# EAGLE library part SX1509 (library keir_library)
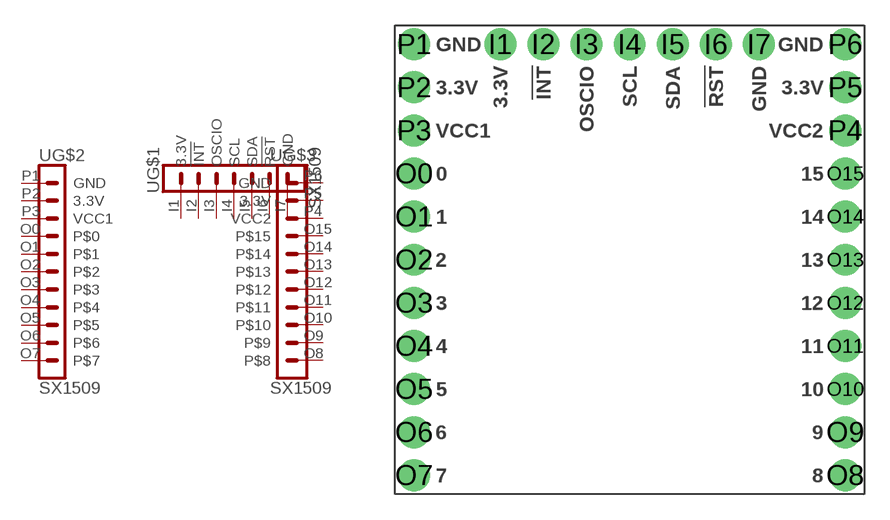
[diagram p8: symbol with the pads of SX1509; footprint SX1509]

Designator prefix -; gates G$2=SX1509_11_A G$3=SX1509_11_B G$1=SX1509_7

## SX1509  [SX1509]
I1  G$1:3.3V  pwr
I2  G$1:!INT  in
I3  G$1:OSCIO
I4  G$1:SCL
I5  G$1:SDA
I6  G$1:!RST  out
I7  G$1:GND  sup
O0  G$2:P$0
O1  G$2:P$1
O2  G$2:P$2
O3  G$2:P$3
O4  G$2:P$4
O5  G$2:P$5
O6  G$2:P$6
O7  G$2:P$7
O8  G$3:P$8
O9  G$3:P$9
O10  G$3:P$10
O11  G$3:P$11
O12  G$3:P$12
O13  G$3:P$13
O14  G$3:P$14
O15  G$3:P$15
P1  G$2:GND  sup
P2  G$2:3.3V  sup
P3  G$2:VCC1  sup
P4  G$3:VCC2  sup
P5  G$3:3.3V  sup
P6  G$3:GND  sup

## Footprint SX1509 (pad centres in mm)
SX1509 Breakout Board
drill 1.016 pad 1.88: I1 -7.62,12.7; I2 -5.08,12.7; I3 -2.54,12.7; I4 0,12.7; I5 2.54,12.7; I6 5.08,12.7; I7 7.62,12.7; O0 -12.7,5.08; O1 -12.7,2.54; O2 -12.7,0; O3 -12.7,-2.54; O4 -12.7,-5.08; O5 -12.7,-7.62; O6 -12.7,-10.16; O7 -12.7,-12.7; O8 12.7,-12.7; O9 12.7,-10.16; O10 12.7,-7.62; O11 12.7,-5.08; O12 12.7,-2.54; O13 12.7,0; O14 12.7,2.54; O15 12.7,5.08; P1 -12.7,12.7; P2 -12.7,10.16; P3 -12.7,7.62; P4 12.7,7.62; P5 12.7,10.16; P6 12.7,12.7